# EAGLE library part MINI-16SM-SP1 (library z-comm)
VCO
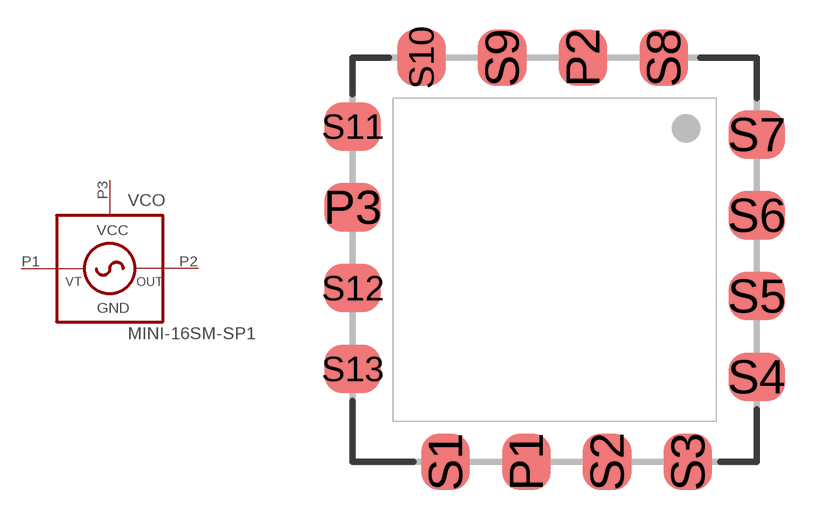
[diagram p6: symbol with the pads of MINI-16SM-SP1; footprint MINI-16SM-SP1]

Designator prefix VCO

## MINI-16SM-SP1  [MINI-16SM-SP1]
P1  VT  in
P2  OUT  out
P3  VCC  pwr
S1  S1  pwr
S2  S2  pwr
S3  S3  pwr
S4  S4  pwr
S5  S5  pwr
S6  S6  pwr
S7  S7  pwr
S8  S8  pwr
S9  S9  pwr
S10  S10  pwr
S11  S11  pwr
S12  S12  pwr
S13  S13  pwr

## Footprint MINI-16SM-SP1 (pad centres in mm)
VCO MINI-16SM-SP1
smd 1.524 x 1.778: P1 -0.889,-6.35; P2 0.889,6.35; S1 -3.429,-6.35; S2 1.651,-6.35; S3 4.191,-6.35; S8 3.429,6.35; S9 -1.651,6.35; S10 -4.191,6.35
smd 1.778 x 1.524: P3 -6.35,1.651; S4 6.35,-3.683; S5 6.35,-1.143; S6 6.35,1.397; S7 6.35,3.937; S11 -6.35,4.191; S12 -6.35,-0.889; S13 -6.35,-3.429